# Altium integrated library 102618-3.IntLib: 1 symbol
Pins are listed as number, name and electrical type; pins without a type are passive.

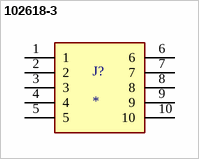
[diagram p0: symbol 102618-3]

## 102618-3
designator J?
10 MODII HDR DRST SHRD .100CL; MP: 102618-3; Package: None; Price: None; Value: *; Availability: Unavailable
footprint TE_102618-3
pins: 1, 2, 3, 4, 5, 6, 7, 8, 9, 10